# EAGLE library part TLE94112EL (library TLE94112EL)
TLE94112EL Protected Twelve-Fold Half-Bridge Driver Package: PG-SSOP-24-4, -9-PO V01
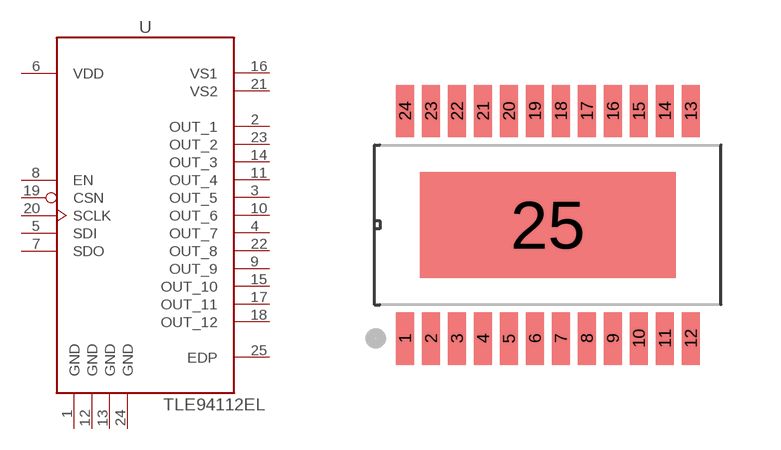
[diagram p0: symbol with the pads of SOP65P600X170-25N; footprint SOP65P600X170-25N]

Designator prefix U

## TLE94112EL  [SOP65P600X170-25N]
1  GND  pwr
2  OUT_1  out
3  OUT_5  out
4  OUT_7  out
5  SDI  in
6  VDD  pwr
7  SDO  out
8  EN  in
9  OUT_9  out
10  OUT_6  out
11  OUT_4  out
12  GND  pwr
13  GND  pwr
14  OUT_3  out
15  OUT_10  out
16  VS1  pwr
17  OUT_11  out
18  OUT_12  out
19  CSN  in
20  SCLK  in
21  VS2  pwr
22  OUT_8  out
23  OUT_2  out
24  GND  pwr
25  EDP  pwr

## Footprint SOP65P600X170-25N (pad centres in mm)
Original name SOP65P600X170-25N Max Component Height - 1.7mm
smd 0.45 x 1.31: 1 -3.575,-2.845; 2 -2.925,-2.845; 3 -2.275,-2.845; 4 -1.625,-2.845; 5 -0.975,-2.845; 6 -0.325,-2.845; 7 0.325,-2.845; 8 0.975,-2.845; 9 1.625,-2.845; 10 2.275,-2.845; 11 2.925,-2.845; 12 3.575,-2.845; 13 3.575,2.845; 14 2.925,2.845; 15 2.275,2.845; 16 1.625,2.845; 17 0.975,2.845; 18 0.325,2.845; 19 -0.325,2.845; 20 -0.975,2.845; 21 -1.625,2.845; 22 -2.275,2.845; 23 -2.925,2.845; 24 -3.575,2.845
smd 6.4 x 2.65: 25 0,0